# Altium footprint library TMCS1108A4BQDR.PcbLib: 4 footprints
Each footprint in its own frame and in the unit in brackets; x right, y up, seen from the top. Pads: shape width x height; smd on the part's side, far side on the other; paste and mask are expansions set on the pad; w line width, h text height; cw(c..) or ccw(c..) is an arc to the next point about the centre after c.
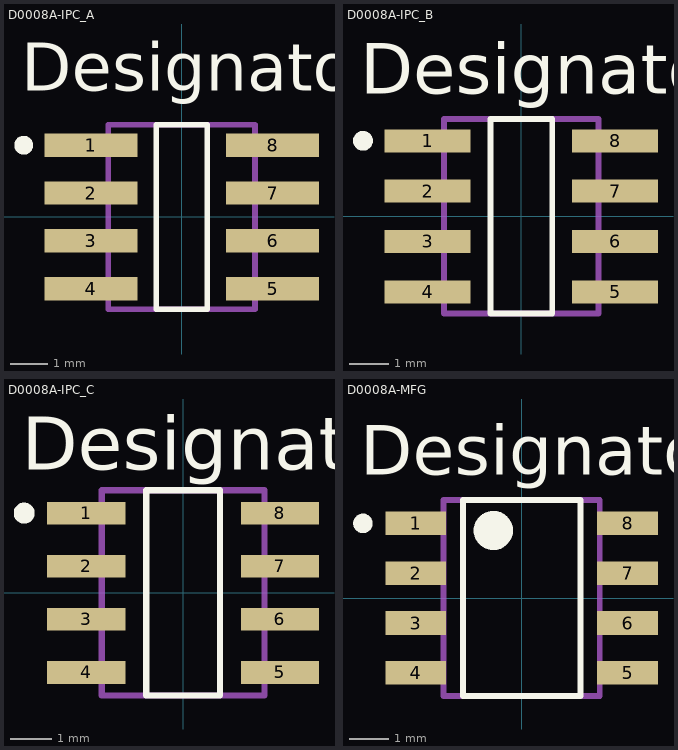
[diagram p0: the footprints below, top view; thin cyan lines are the x and y axes]

## D0008A-IPC_A [mil]
pads (8):
  rect 97.21x24.49 smd paste+0 mask+0: 1(-95.02,75) 2(-95.02,25) 3(-95.02,-25) 4(-95.02,-75) 5(95.02,-75) 6(95.02,-25) 7(95.02,25) 8(95.02,75)
Top Overlay:
  circle w9.84: c-165.28,75 r4.92
  lines w5.91: -26.73,-96.56 -26.73,96.56 26.73,96.56 26.73,-96.56 -26.73,-96.56
  text "Designator9" at -168,132 h50
Mechanical 13:
  lines w5.91: -76.67,-96.56 -76.67,96.56 76.67,96.56 76.67,-96.56 -76.67,-96.56
  text ".Designator" at 1.97,-16.47 h50
3D body: height 10, standoff 0, extent 0,0 10,10

## D0008A-IPC_B [mil]
pads (8):
  rect 85.4x22.92 smd paste+0 mask+0: 1(-93.06,75) 2(-93.06,25) 3(-93.06,-25) 4(-93.06,-75) 5(93.06,-75) 6(93.06,-25) 7(93.06,25) 8(93.06,75)
Top Overlay:
  circle w9.84: c-157.41,75 r4.92
  lines w5.91: -30.67,-96.56 -30.67,96.56 30.67,96.56 30.67,-96.56 -30.67,-96.56
  text "Designator9" at -160,122 h50
Mechanical 13:
  lines w5.91: -76.67,-96.56 -76.67,96.56 76.67,96.56 76.67,-96.56 -76.67,-96.56
  text ".Designator" at 1.97,-16.47 h50
3D body: height 10, standoff 0, extent 0,0 10,10

## D0008A-IPC_C [mil]
pads (8):
  rect 73.59x21.34 smd paste+0 mask+0: 1(-91.09,75) 2(-91.09,25) 3(-91.09,-25) 4(-91.09,-75) 5(91.09,-75) 6(91.09,-25) 7(91.09,25) 8(91.09,75)
Top Overlay:
  circle w9.84: c-149.53,75 r4.92
  lines w5.91: -34.61,-96.56 -34.61,96.56 34.61,96.56 34.61,-96.56 -34.61,-96.56
  text "Designator9" at -152,116 h50
Mechanical 13:
  lines w5.91: -76.67,-96.56 -76.67,96.56 76.67,96.56 76.67,-96.56 -76.67,-96.56
  text ".Designator" at 1.97,-16.47 h50
3D body: height 10, standoff 0, extent 0,0 10,10

## D0008A-MFG [mm]
pads (8):
  rect 1.55x0.6 smd paste+0 mask+0: 1(-2.7,1.905) 2(-2.7,0.635) 3(-2.7,-0.635) 4(-2.7,-1.905) 5(2.7,-1.905) 6(2.7,-0.635) 7(2.7,0.635) 8(2.7,1.905)
Top Overlay:
  circle w0.5: c-0.725,1.725 r0.25
  circle w0.25: c-4.05,1.905 r0.125
  lines w0.15: -1.5,-2.5 -1.5,2.5 1.5,2.5 1.5,-2.5 -1.5,-2.5
  text "Designator9" at -4.115,3.15 h1.27
Mechanical 13:
  lines w0.15: -1.99,-2.5 -1.99,2.5 1.99,2.5 1.99,-2.5 -1.99,-2.5
  text ".Designator" at 0.05,-0.418 h1.27
3D body: height 0.25, standoff 0, extent 0,0 0.254,0.254